# Altium schematic symbol library Harry_Connectors.SchLib: 7 symbols
Pins are listed as number, name and electrical type; pins without a type are passive.

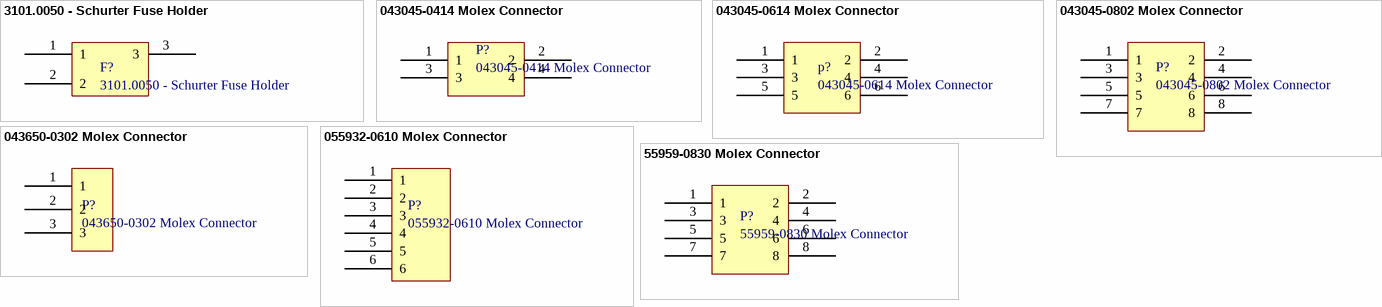
[diagram p0: symbols 3101.0050 - Schurter Fuse Holder to 55959-0830 Molex Connector]

## 3101.0050 - Schurter Fuse Holder
designator F?
Shock-Safe Fuseholder, 5 x 20 mm, Slotted Cap/Fingergrip, horizontal, IEC 60335-1
footprint 3101.0050 - Schurter Fuse Holder (Shock-Safe Fuseholder, 5 x 20 mm, Slotted Cap/Fingergrip, horizontal, IEC 60335-1)
pins: 1, 2, 3

## 043045-0414 Molex Connector
designator P?
Micro-Fit 3.0 Vertical Header, 3.00mm Pitch, Dual Row, 4 Circuits, with PCB Polarizing Peg, Gold, Glow Wire Capable, Black
footprint 043045-0414 Molex Connector (Micro-Fit 3.0 Vertical Header, 3.00mm Pitch, Dual Row, 4 Circuits, with PCB Polarizing Peg, Gold, Glow Wire Capable, Black)
pins: 1, 2, 3, 4

## 043045-0614 Molex Connector
designator p?
Micro-Fit 3.0 Vertical Header, 3.00mm Pitch, Dual Row, 6 Circuits, with PCB Polarizing Peg, Gold, Glow Wire Capable, Black
footprint 043045-0614 Molex Connector (Micro-Fit 3.0 Vertical Header, 3.00mm Pitch, Dual Row, 6 Circuits, with PCB Polarizing Peg, Gold, Glow Wire Capable, Black)
pins: 1, 2, 3, 4, 5, 6

## 043045-0802 Molex Connector
designator P?
Micro-Fit 3.0 Right Angle Header, 3.00mm Pitch, Dual Row, 8 Circuits, with Snap-in Plastic Peg PCB Lock, Gold, Glow Wire Capable, Black
footprint 043045-0802 Molex Connector (Micro-Fit 3.0 Right Angle Header, 3.00mm Pitch, Dual Row, 8 Circuits, with Snap-in Plastic Peg PCB Lock, Gold, Glow Wire Capable, Black)
pins: 1, 2, 3, 4, 5, 6, 7, 8

## 043650-0302 Molex Connector
designator P?
Micro-Fit 3.0 Right Angle Header, 3.00mm Pitch, Single Row, 3 Circuits, with Snap-in Plastic Peg PCB Lock, Gold, Glow Wire Capable, Black
footprint 043045-0402 Molex Connector (Micro-Fit 3.0 Right Angle Header, 3.00mm Pitch, Dual Row, 4 Circuits, with Snap-in Plastic Peg PCB Lock, Gold, Glow Wire Capable, Black)
pins: 1, 2, 3

## 055932-0610 Molex Connector
designator P?
2.00mm Pitch MicroClasp Wire-to-Board Header, Single Row, Vertical, 6 Circuits, with PCB Locator
footprint 055932-0610 Molex Connector (2.00mm Pitch MicroClasp Wire-to-Board Header, Single Row, Vertical, 6 Circuits, with PCB Locator)
pins: 1, 2, 3, 4, 5, 6

## 55959-0830 Molex Connector
designator P?
2.00mm Pitch MicroClasp Wire-to-Board Header, Dual Row, Right Angle, 8 Circuits
footprint 055959-0830 Molex Connector (2.00mm Pitch MicroClasp Wire-to-Board Header, Dual Row, Right Angle, 8 Circuits)
pins: 1, 2, 3, 4, 5, 6, 7, 8